# EAGLE library part 662010235922 (library Wire-to-Board (rev18a))
WR-MPC3 3.00mm Male Dual Row SMT Vertical Header with Through Hole Retention Clip, 10 Pins=>Code : Con_WTB_MPC3_2_PCB_SMT_662010235922 <http://katalog.we-online.de/media/thumbs2/eican/thb_Con_WTB_MPC3_2_PCB_SMT_6620xx235922_pf2.jpg> Details see: http://katalog.we-online.de/en/em/MPC3_3_00_SMT_MALE_DUAL_ROW_VERTICAL_HEADER_W_THT_RETENTION_CLIP_6623XX235922 Created 2014-06-06, Karrer Zheng 2014 (C) Würth Elektronik
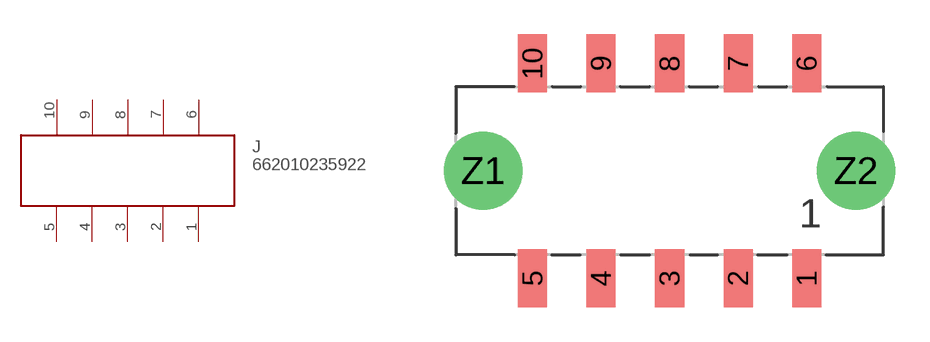
[diagram p354: symbol with the pads of 662010235922; footprint 662010235922]

Designator prefix J

## 662010235922  [662010235922]
1  1
2  2
3  3
4  4
5  5
6  6
7  7
8  8
9  9
10  10

## Footprint 662010235922 (pad centres in mm)
WR-MPC3 3.00mm Male Dual Row SMT Vertical Header with Through Hole Retention Clip, 10 Pins
smd 1.27 x 2.54: 1 6,-4.7; 2 3,-4.7; 3 0,-4.7; 4 -3,-4.7; 5 -6,-4.7; 6 6,4.7; 7 3,4.7; 8 0,4.7; 9 -3,4.7; 10 -6,4.7
drill 2.41: Z1 -8.16,0; Z2 8.16,0